# Altium footprint library Buzzer_Beeper.PcbLib: 35 footprints (part 3 of 3)
Each footprint in its own frame and in the unit in brackets; x right, y up, seen from the top. Pads: shape width x height; smd on the part's side, far side on the other; paste and mask are expansions set on the pad; w line width, h text height; cw(c..) or ccw(c..) is an arc to the next point about the centre after c.
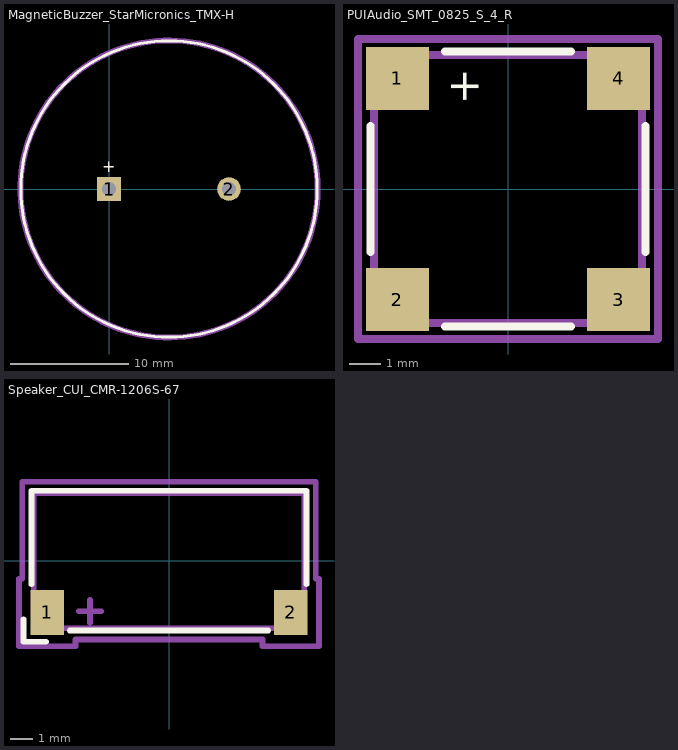
[diagram p2: the footprints below, top view; thin cyan lines are the x and y axes]

## MagneticBuzzer_StarMicronics_TMX-H [mm]
pads (2):
  rect 2x2 hole 1.2: 1(0,0)
  round 2 hole 1.2: 2(10.2,0)
F.SilkS:
  circle w0.254: c5.1,0 r12.6
  text "+" at -0.578,1.422 h1
Top Assembly:
  circle w0.254: c5.1,0 r12.5
  text "'.Designator'" at 1.053,12.66 h1
  text "+" at -0.578,1.422 h1
Top Courtyard:
  circle w0.254: c5.1,0 r12.75
Top Designator:
  text ".Designator" at -2.518,-0.018 h1.52

## PUIAudio_SMT_0825_S_4_R [mm]
pads (4):
  rect 2x2 smd: 1(-3.5,3.5) 2(-3.5,-3.5) 3(3.5,-3.5) 4(3.5,3.5)
F.SilkS:
  lines w0.254: -4.35,-2 -4.35,2 ; -2,-4.35 2,-4.35 ; -2,4.35 2,4.35 ; 4.35,-2 4.35,2
  text "+" at -0.922,2.672 h1
Top Assembly:
  lines w0.254: -4.25,-2.75 -2.75,-4.25 2.75,-4.25 4.25,-2.75 4.25,2.75 2.75,4.25 -2.75,4.25 -4.25,2.75 -4.25,-2.75
  text "+" at -2.172,2.172 h1
  text "'.Designator'" at -3.947,-0.94 h1
Top Courtyard:
  lines w0.254: -4.75,-4.75 4.75,-4.75 4.75,4.75 -4.75,4.75 -4.75,-4.75
Top Designator:
  text ".Designator" at -7.618,-0.508 h1.52
3D body "PUIAudio_SMT_0825_S_4_R.step": height 3.03, standoff -0.02, extent -4.269,-4.269 4.269,4.269

## Speaker_CUI_CMR-1206S-67 [mm]
pads (2):
  rect 1.5x2 smd: 1(-5.4,-2.3) 2(5.4,-2.3)
F.SilkS:
  lines w0.254: -6.45,-2.6 -6.45,-3.6 -5.45,-3.6 ; -6.1,-1.05 -6.1,3.1 6.1,3.1 6.1,-1.05 ; -4.4,-3.1 4.4,-3.1
Top Assembly:
  lines w0.254: -4,-2.25 -3,-2.25 ; -3.5,-2.75 -3.5,-1.75 ; -6,-3 -6,3 6,3 6,-3 -6,-3
  text "'.Designator'" at -4.047,-0.84 h1
Top Courtyard:
  lines w0.254: -6.65,-3.8 -6.65,-0.8 -6.5,-0.8 -6.5,3.5 6.5,3.5 6.5,-0.8 6.65,-0.8 6.65,-3.8 4.15,-3.8 4.15,-3.5 -4.15,-3.5 -4.15,-3.8 -6.65,-3.8
Top Designator:
  text ".Designator" at -7.618,-0.658 h1.52